# Altium integrated library ferrite bead 10uH.IntLib: 1 symbol
Pins are listed as number, name and electrical type; pins without a type are passive.

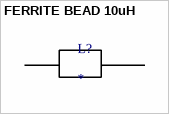
[diagram p0: symbol FERRITE BEAD 10uH]

## FERRITE BEAD 10uH
designator L?
FERRITE BEAD; Power_Rating: .25 W; Reactance: 10uH; MF: TE Connectivity; MP: 2-1623927-3; Voltage_Rating: 200 V; Tolerance: 5%; SnapEDA_Link: https://www.snapeda.com/parts/2-1623927-3/TE+Connectivity/view-part/?ref=snap; Package: None; Value: *; EU_RoHS_Compliance: Compliant; Check_prices: https://www.snapeda.com/parts/2-1623927-3/TE+Connectivity/view-part/?ref=eda
footprint RESAD700W45L350D185
pins: 1, 2